# Altium schematic symbol library LED_Ext.SchLib: 1 symbol
Pins are listed as number, name and electrical type; pins without a type are passive.

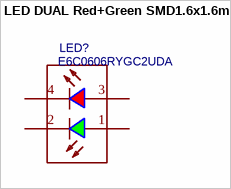
[diagram p0: symbol LED DUAL Red+Green SMD1.6x1.6mm]

## LED DUAL Red+Green SMD1.6x1.6mm
designator LED?, comment E6C0606RYGC2UDA
DUAL-LED; BOM_Manufacturer: EKINGLUX; SMT Type: Extend; Color: Red,Green-Yellow; BOM_JLCPCB SMD: Yes; BOM_LCSC Assembly: Yes; spiceSymbolName: E6C0606RYGC2UDA; Datasheet: https://datasheet.lcsc.com/szlcsc/1912111437_EKINGLUX-E6C0606RYGC2UDA_C375543.pdf; JLCPCB_Mount: SMD; ComponentLink1URL: https://lcsc.com/product-detail/Light-Emitting-Diodes-LED_EKINGLUX-E6C0606RYGC2UDA_C375543.html; Package: SMD,1.6x1.6x0.6mm; PartNumber: E6C0606RYGC2UDA; Supplier: LC; BOM_Manufacturer Part: E6C0606RYGC2UDA; BOM_Supplier: LCSC; BOM_Supplier Part: C375543
footprint LED-SMD_4P-L1.6-W1.6-BL-RD
pins: 1 +, 2 -, 3 +, 4 -